# EAGLE library part 74HCT193PW (library GW-devices)
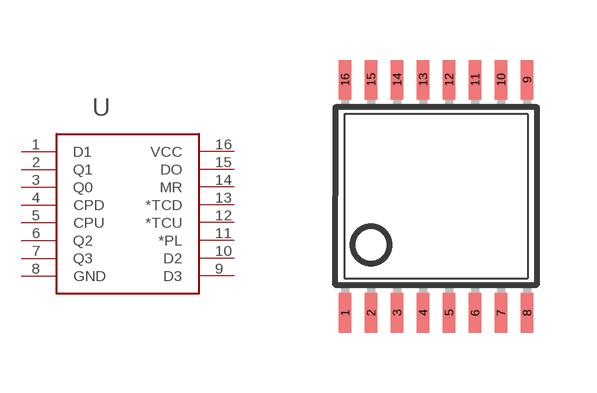
[diagram p52: symbol with the pads of TSSOP16; footprint TSSOP16]

Designator prefix -

## 74HCT193PW  [TSSOP16]
1  D1
2  Q1
3  Q0
4  CPD
5  CPU
6  Q2
7  Q3
8  GND  sup
9  D3
10  D2
11  *PL
12  *TCU
13  *TCD
14  MR
15  DO
16  VCC  pwr

## Footprint TSSOP16 (pad centres in mm)
Thin Shrink Small Outline Plastic 16 MAX3223-MAX3243.pdf
smd 0.305 x 0.991: 1 -2.275,-2.918; 2 -1.625,-2.918; 3 -0.975,-2.918; 4 -0.325,-2.918; 5 0.325,-2.918; 6 0.975,-2.918; 7 1.625,-2.918; 8 2.275,-2.918; 9 2.275,2.918; 10 1.625,2.918; 11 0.975,2.918; 12 0.325,2.918; 13 -0.325,2.918; 14 -0.975,2.918; 15 -1.625,2.918; 16 -2.275,2.918